# EAGLE library part HDR-1X11 (library con-hdrs40)
HEADER CONNECTOR
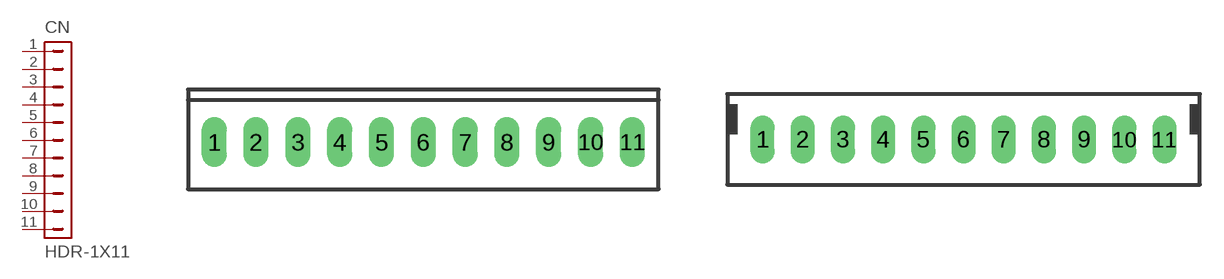
[diagram p5: symbol with the pads of MTA-100-11V; footprints MTA-100-11V, MTE-100-11V]

Designator prefix CN

## HDR-1X11-MTA-100  [MTA-100-11V]
1  1  pas
2  2  pas
3  3  pas
4  4  pas
5  5  pas
6  6  pas
7  7  pas
8  8  pas
9  9  pas
10  10  pas
11  11  pas

## HDR-1X11-MTE-100  [MTE-100-11V]
Pads as for MTA-100-11V

## HDR-1X11-MTE-100-L  [MTE-100-11VL]
Pads as for MTA-100-11V

## HDR-1X11-SIP-100  [SIP-100-11V]
Pads as for MTA-100-11V

## HDR-1X11-15-91-?  [15-91-11]
Pads as for MTA-100-11V

## HDR-1X11-70543-?  [70543-11]
Pads as for MTA-100-11V

## HDR-1X11-70553-?  [70553-11]
Pads as for MTA-100-11V

## Footprint MTA-100-11V (pad centres in mm)
AMP MTA Vertical .100" 11 pin
drill 1.016 long: 1 -12.7,0; 2 -10.16,0; 3 -7.62,0; 4 -5.08,0; 5 -2.54,0; 6 0,0; 7 2.54,0; 8 5.08,0; 9 7.62,0; 10 10.16,0; 11 12.7,0

## Footprint MTE-100-11V (pad centres in mm)
AMP MTE Vertical .100" 11 pin
drill 1.016 long: 1 -12.7,0; 2 -10.16,0; 3 -7.62,0; 4 -5.08,0; 5 -2.54,0; 6 0,0; 7 2.54,0; 8 5.08,0; 9 7.62,0; 10 10.16,0; 11 12.7,0

## Footprint MTE-100-11VL (pad centres in mm)
AMP MTE Vertical .100" 11 pin w/latch
drill 1.016 long: 1 -12.7,0; 2 -10.16,0; 3 -7.62,0; 4 -5.08,0; 5 -2.54,0; 6 0,0; 7 2.54,0; 8 5.08,0; 9 7.62,0; 10 10.16,0; 11 12.7,0

## Footprint SIP-100-11V (pad centres in mm)
SIP Header Vertical 100" 11 pin
drill 1.016 long: 1 -12.7,0; 2 -10.16,0; 3 -7.62,0; 4 -5.08,0; 5 -2.54,0; 6 0,0; 7 2.54,0; 8 5.08,0; 9 7.62,0; 10 10.16,0; 11 12.7,0

## Footprint 15-91-11 (pad centres in mm)
Molex C-Grid SL Connector right angle SMD, 11 pin
smd 1.651 x 5.334: 1 -12.7,-10.795; 2 -10.16,-10.795; 3 -7.62,-10.795; 4 -5.08,-10.795; 5 -2.54,-10.795; 6 0,-10.795; 7 2.54,-10.795; 8 5.08,-10.795; 9 7.62,-10.795; 10 10.16,-10.795; 11 12.7,-10.795
hole 3.404 at -14.097,0.838
hole 3.404 at 14.097,0.838

## Footprint 70543-11 (pad centres in mm)
Molex C-Grid SL Connector vertical, 11 pin
drill 1.016 long: 1 -12.7,0; 2 -10.16,0; 3 -7.62,0; 4 -5.08,0; 5 -2.54,0; 6 0,0; 7 2.54,0; 8 5.08,0; 9 7.62,0; 10 10.16,0; 11 12.7,0

## Footprint 70553-11 (pad centres in mm)
Molex C-Grid SL Connector right angle, 11 pin
drill 1.092 long: 1 -12.7,-7.62; 2 -10.16,-7.62; 3 -7.62,-7.62; 4 -5.08,-7.62; 5 -2.54,-7.62; 6 0,-7.62; 7 2.54,-7.62; 8 5.08,-7.62; 9 7.62,-7.62; 10 10.16,-7.62; 11 12.7,-7.62